# EAGLE library part M34506(20PIN) (library renesas_mcu)
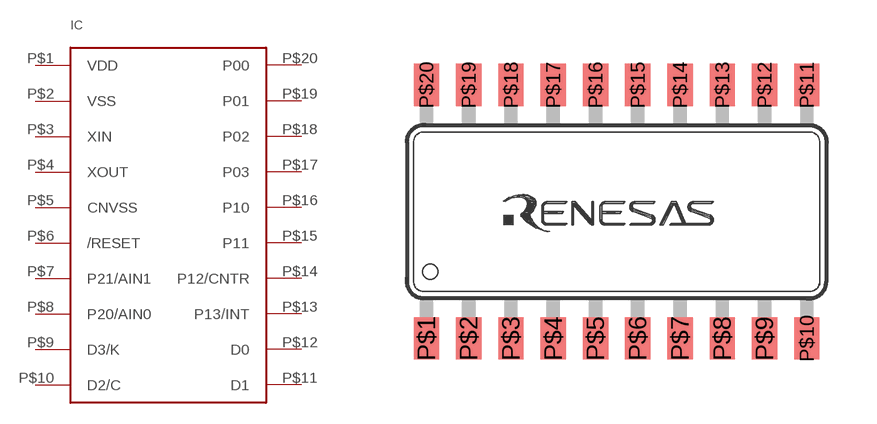
[diagram p45: symbol with the pads of 20P2N-A; footprint 20P2N-A]

Designator prefix IC

## M34506(20PIN)  [20P2N-A]
P$1  VDD  pwr
P$2  VSS  pwr
P$3  XIN  in
P$4  XOUT  out
P$5  CNVSS
P$6  /RESET
P$7  P21/AIN1
P$8  P20/AIN0
P$9  D3/K
P$10  D2/C
P$11  D1
P$12  D0
P$13  P13/INT
P$14  P12/CNTR
P$15  P11
P$16  P10
P$17  P03
P$18  P02
P$19  P01
P$20  P00

## Footprint 20P2N-A (pad centres in mm)
smd 0.76 x 1.27: P$1 -5.715,-3.81; P$2 -4.445,-3.81; P$3 -3.175,-3.81; P$4 -1.905,-3.81; P$5 -0.635,-3.81; P$6 0.635,-3.81; P$7 1.905,-3.81; P$8 3.175,-3.81; P$9 4.445,-3.81; P$10 5.715,-3.81; P$11 5.715,3.81; P$12 4.445,3.81; P$13 3.175,3.81; P$14 1.905,3.81; P$15 0.635,3.81; P$16 -0.635,3.81; P$17 -1.905,3.81; P$18 -3.175,3.81; P$19 -4.445,3.81; P$20 -5.715,3.81